# EAGLE library part MICROSD_READER (library CRD)
Leitor e gravador de cartão SD
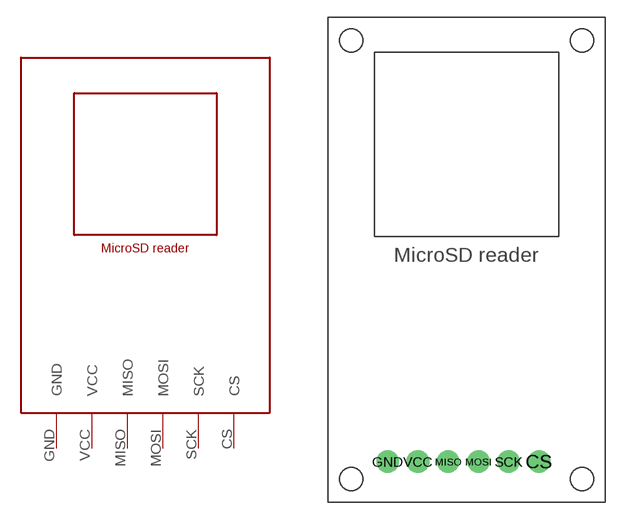
[diagram p10: symbol with the pads of MICROSD_READER_FOOTPRINT; footprint MICROSD_READER_FOOTPRINT]

Designator prefix -

## MICROSD_READER  [MICROSD_READER_FOOTPRINT]
CS  CS
GND  GND
MISO  MISO
MOSI  MOSI
SCK  SCK
VCC  VCC

## Footprint MICROSD_READER_FOOTPRINT (pad centres in mm)
drill 1.3: CS 6.449,-8.692; GND -6.651,-8.692; MISO -1.411,-8.692; MOSI 1.209,-8.692; SCK 3.829,-8.692; VCC -4.031,-8.692